# Altium footprint library Jump_254.PcbLib: 184 footprints (part 1 of 12)
Each footprint in its own frame and in the unit in brackets; x right, y up, seen from the top. Pads: shape width x height; smd on the part's side, far side on the other; paste and mask are expansions set on the pad; w line width, h text height; cw(c..) or ccw(c..) is an arc to the next point about the centre after c.
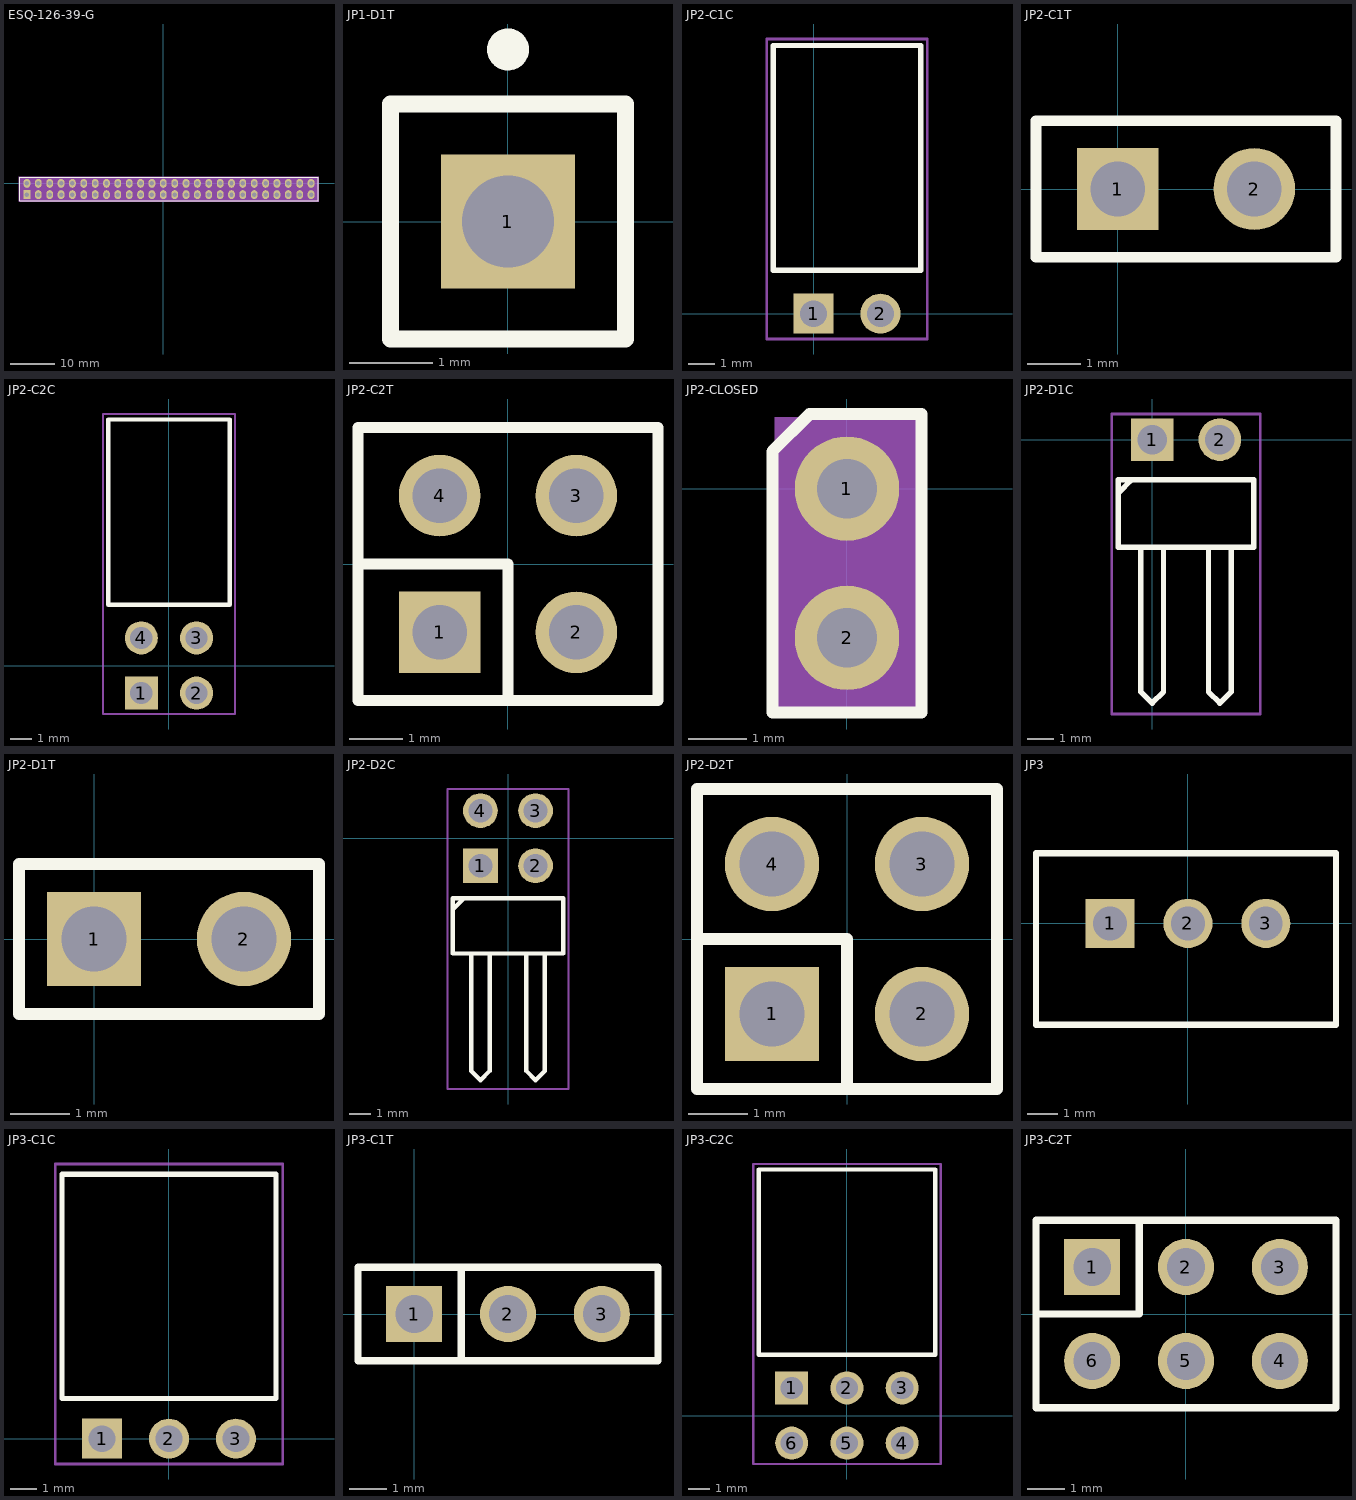
[diagram p0: the footprints below, top view; thin cyan lines are the x and y axes]

## ESQ-126-39-G [mm]
pads (52):
  rect 1.5x2 hole 1 paste-2539.97 mask+0: 1(-30.48,-2.54)
  oval 1.5x2 hole 1 paste-2539.97 mask+0: 2(-30.48,0) 3(-27.94,-2.54) 4(-27.94,0) 5(-25.4,-2.54) 6(-25.4,0) 7(-22.86,-2.54) 8(-22.86,0) 9(-20.32,-2.54) 10(-20.32,0) 11(-17.78,-2.54) 12(-17.78,0) 13(-15.24,-2.54) 14(-15.24,0) 15(-12.7,-2.54) 16(-12.7,0) 17(-10.16,-2.54) 18(-10.16,0) 19(-7.62,-2.54) 20(-7.62,0) 21(-5.08,-2.54) 22(-5.08,0) 23(-2.54,-2.54) 24(-2.54,0) 25(0,-2.54) 26(0,0) 27(2.54,-2.54) 28(2.54,0) 29(5.08,-2.54) 30(5.08,0) 31(7.62,-2.54) 32(7.62,0) 33(10.16,-2.54) 34(10.16,0) 35(12.7,-2.54) 36(12.7,0) 37(15.24,-2.54) 38(15.24,0) 39(17.78,-2.54) 40(17.78,0) 41(20.32,-2.54) 42(20.32,0) 43(22.86,-2.54) 44(22.86,0) 45(25.4,-2.54) 46(25.4,0) 47(27.94,-2.54) 48(27.94,0) 49(30.48,-2.54) 50(30.48,0) 51(33.02,-2.54) 52(33.02,0)
Top Overlay:
  lines w0.152: -32.131,-3.873 34.671,-3.873 34.671,1.333 -32.131,1.333 -32.131,-3.873
Mechanical 13:
  lines w0.025: -32.004,-3.746 34.544,-3.746 34.544,1.206 -32.004,1.206 -32.004,-3.746
Mechanical 15:
  region: 34.798,1.46 -32.258,1.46 -32.258,-4 34.798,-4
  lines w0.152: -32.258,-4 -32.258,1.46 34.798,1.46 34.798,-4 -32.258,-4
3D body "ESQ-126-39-G-D.stp": height 11.06, standoff -12.18, extent -32.004,-3.796 34.544,1.284

## JP1-D1T [mm] "1pins, 1 row, straight, gold plating"
height 8.54
pads (1):
  rect 1.6x1.6 hole 1.1: 1(0,0)
Top Overlay:
  circle w0.25: c0,2.05 r0.125
  lines w0.2: -1.4,-1.4 1.4,-1.4 1.4,1.4 -1.4,1.4 -1.4,-1.4
3D body "61300111121.stp": height 8.54, standoff -3, extent -1.27,-1.27 1.27,1.27

## JP2-C1C [mm] "02p 1 row Right angle"
height 2.5
pads (2):
  rect 1.52x1.52 hole 1.02: 1(0,0)
  round 1.52 hole 1.02: 2(2.54,0)
Top Overlay:
  lines w0.2: -1.524,1.651 -1.524,10.173 4.064,10.173 4.064,1.651 -1.524,1.651
Mechanical 15:
  lines w0.1: -1.774,-0.96 -1.774,10.423 4.314,10.423 4.314,-0.96 -1.774,-0.96
3D body "613002143121.stp": height 2.51, standoff -3.08, extent -1.52,-0.127 4.06,10.173

## JP2-C1T [mm] "2 row, straight, gold plating"
height 8.5
pads (2):
  rect 1.52x1.52 hole 1.02: 1(0,0)
  round 1.52 hole 1.02: 2(2.54,0)
Top Overlay:
  lines w0.2: -1.52,-1.27 -1.52,1.27 4.06,1.27 4.06,-1.27 -1.52,-1.27
3D body "61300211821.stp": height 8.51, standoff -3.09, extent -1.52,-1.25 4.06,1.25

## JP2-C2C [mm] "04p 2 rows Right angle"
height 5.08
pads (4):
  rect 1.52x1.52 hole 1.02: 1(-1.27,-1.27)
  round 1.52 hole 1.02: 2(1.27,-1.27) 3(1.27,1.27) 4(-1.27,1.27)
Top Overlay:
  lines w0.2: -2.794,2.794 -2.794,11.316 2.794,11.316 2.794,2.794 -2.794,2.794
Mechanical 15:
  lines w0.1: -3.04,-2.23 3.044,-2.23 3.044,11.566 -3.04,11.566 -3.04,-2.23
3D body "613004243121.stp": height 5.09, standoff -4.46, extent -2.79,-1.524 2.79,11.316

## JP2-C2T [mm] "4 pins, dual row, straight, gold plating"
height 8.5
pads (4):
  rect 1.52x1.52 hole 1.02: 1(-1.27,-1.27)
  round 1.52 hole 1.02: 2(1.27,-1.27) 3(1.27,1.27) 4(-1.27,1.27)
Top Overlay:
  lines w0.2: -2.79,0 0,0 0,-2.54 ; -2.79,-2.54 -2.79,2.54 2.79,2.54 2.79,-2.54 -2.79,-2.54
3D body "61300421821.stp": height 8.51, standoff -3.09, extent -2.79,-2.54 2.79,2.54

## JP2-CLOSED [mil]
pads (2):
  round 70 hole 40: 1(0,0) 2(0,-100)
Top Overlay:
  lines w8: -50,-150 -50,25 -25,50 50,50 50,-150 -50,-150
Mechanical 2:
  rectangle: -48,-151 49.5,48
Mechanical 3:
  rectangle: -48.5,-148 48.5,48
3D body: height 280, standoff 250, extent -48,-152 48,48
3D body: height 250, standoff 220, extent -41,-144 40,39.5
3D body: height 220, standoff 100, extent -48,-152 48,48
3D body: height 100, standoff 0, extent -50,-150.43 50,50
3D body: height 300, standoff -120, extent -15,-15.25 15,14.75
3D body: height 300, standoff -120, extent -15,-115.25 15,-85.25

## JP2-D1C [mm] "2 pins, 1 row, right angled, gold plating"
height 2.54
pads (2):
  rect 1.6x1.6 hole 1.1: 1(0,0)
  round 1.6 hole 1.1: 2(2.54,0)
Top Overlay:
  lines w0.2: -1.228,-1.966 -0.804,-1.542 ; -0.423,-4.065 -0.423,-9.459 0,-9.882 0.423,-9.459 0.423,-4.04 ; 2.117,-4.065 2.117,-9.459 2.54,-9.882 2.963,-9.459 2.963,-4.065 ; -1.27,-4.04 -1.27,-1.5 3.81,-1.5 3.81,-4.04 -1.27,-4.04
Mechanical 15:
  lines w0.1: -1.52,-10.29 -1.52,0.96 4.06,0.96 4.06,-10.29 -1.52,-10.29
3D body "61300211021.stp": height 2.55, standoff -2.99, extent -1.27,-10.064 3.81,0.296

## JP2-D1T [mm] "2 pins, 1 row, straight, gold plating"
height 8.54
pads (2):
  rect 1.6x1.6 hole 1.1: 1(0,0)
  round 1.6 hole 1.1: 2(2.54,0)
Top Overlay:
  lines w0.2: -1.27,-1.27 -1.27,1.27 3.81,1.27 3.81,-1.27 -1.27,-1.27
3D body "61300211121.stp": height 8.54, standoff -3, extent -1.27,-1.27 3.81,1.27

## JP2-D2C [mm] "4 pins, dual row, right angled, gold plating"
height 5.08
pads (4):
  rect 1.6x1.6 hole 1.1: 1(-1.27,-1.27)
  round 1.6 hole 1.1: 2(1.27,-1.27) 3(1.27,1.27) 4(-1.27,1.27)
Top Overlay:
  lines w0.2: -2.498,-3.236 -2.074,-2.812 ; -1.693,-5.335 -1.693,-10.729 -1.27,-11.152 -0.847,-10.729 -0.847,-5.31 ; 0.847,-5.335 0.847,-10.729 1.27,-11.152 1.693,-10.729 1.693,-5.335 ; -2.54,-5.31 2.54,-5.31 2.54,-2.77 -2.54,-2.77 -2.54,-5.31
Mechanical 15:
  lines w0.1: -2.79,-11.56 2.79,-11.56 2.79,2.27 -2.79,2.27 -2.79,-11.56
3D body "61300421021.stp": height 5.09, standoff -2.99, extent -2.54,-11.376 2.54,1.524

## JP2-D2T [mm] "4 pins, dual pin, straight, gold plating"
height 8.54
pads (4):
  rect 1.6x1.6 hole 1.1: 1(-1.27,-1.27)
  round 1.6 hole 1.1: 2(1.27,-1.27) 3(1.27,1.27) 4(-1.27,1.27)
Top Overlay:
  lines w0.2: -2.54,0 0,0 0,-2.54 ; -2.54,-2.54 -2.54,2.54 2.54,2.54 2.54,-2.54 -2.54,-2.54
3D body "61300421121.stp": height 8.55, standoff -2.99, extent -2.54,-2.54 2.54,2.54

## JP3 [mm] "Header"
pads (3):
  rect 1.6x1.6 hole 1.1: 1(-2.54,0)
  round 1.6 hole 1.1: 2(0,0) 3(2.54,0)
Top Overlay:
  lines w0.2: -4.953,-3.302 -4.953,2.286 4.826,2.286 4.826,-3.302 -4.953,-3.302
3D body "User Library-jst-b3b-xh-a.STEP": height 7, standoff -3.4, extent -4.95,-3.383 4.95,2.367

## JP3-C1C [mm] "03p 1 row Right angle"
height 2.5
pads (3):
  rect 1.52x1.52 hole 1.02: 1(-2.54,0)
  round 1.52 hole 1.02: 2(0,0) 3(2.54,0)
Top Overlay:
  lines w0.2: -4.06,1.524 4.064,1.524 4.064,10.033 -4.06,10.033 -4.06,1.524
Mechanical 15:
  lines w0.1: -4.31,-0.96 4.314,-0.96 4.314,10.423 -4.31,10.423 -4.31,-0.96
3D body "613003143121.stp": height 2.51, standoff -3.08, extent -4.06,-0.254 4.06,10.046

## JP3-C1T [mm] "3 row, straight, gold plating"
height 8.5
pads (3):
  rect 1.52x1.52 hole 1.02: 1(0,0)
  round 1.52 hole 1.02: 2(2.54,0) 3(5.08,0)
Top Overlay:
  lines w0.2: 1.27,-1.27 1.27,1.27 ; -1.52,-1.27 6.6,-1.27 6.6,1.27 -1.52,1.27 -1.52,-1.27
3D body "61300311821.stp": height 8.51, standoff -3.09, extent -1.52,-1.25 6.6,1.25

## JP3-C2C [mm] "06p 2 rows Right angle"
height 5.08
pads (6):
  rect 1.52x1.52 hole 1.02: 1(-2.54,1.27)
  round 1.52 hole 1.02: 2(0,1.27) 3(2.54,1.27) 4(2.54,-1.27) 5(0,-1.27) 6(-2.54,-1.27)
Top Overlay:
  lines w0.2: -4.064,2.794 -4.064,11.316 4.064,11.316 4.064,2.794 -4.064,2.794
Mechanical 15:
  lines w0.1: -4.31,-2.23 4.314,-2.23 4.314,11.566 -4.31,11.566 -4.31,-2.23
3D body "613006243121.stp": height 5.09, standoff -4.46, extent -4.06,-1.524 4.06,11.316

## JP3-C2T [mm] "6 pins, dual row, straight, gold plating"
height 8.5
pads (6):
  rect 1.52x1.52 hole 1.02: 1(-2.54,1.27)
  round 1.52 hole 1.02: 2(0,1.27) 3(2.54,1.27) 4(2.54,-1.27) 5(0,-1.27) 6(-2.54,-1.27)
Top Overlay:
  lines w0.2: -4.06,0 -1.27,0 -1.27,2.54 ; -4.06,-2.54 -4.06,2.54 4.06,2.54 4.06,-2.54 -4.06,-2.54
3D body "61300621821.stp": height 8.51, standoff -3.09, extent -4.06,-2.54 4.06,2.54